# Altium footprint library Components - 18.07.26 - 22.48.PcbLib: 4 footprints
Each footprint in its own frame and in the unit in brackets; x right, y up, seen from the top. Pads: shape width x height; smd on the part's side, far side on the other; paste and mask are expansions set on the pad; w line width, h text height; cw(c..) or ccw(c..) is an arc to the next point about the centre after c.
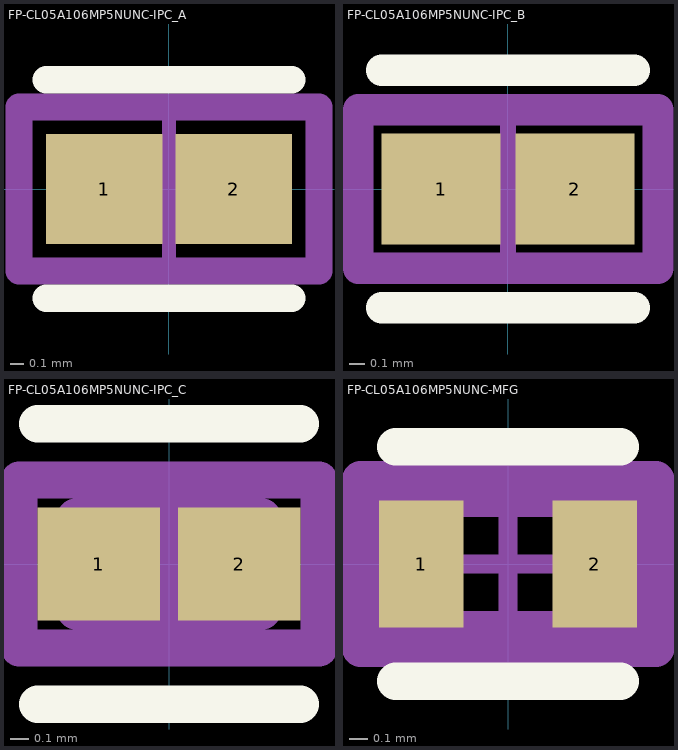
[diagram p0: the footprints below, top view; thin cyan lines are the x and y axes]

## FP-CL05A106MP5NUNC-IPC_A [mm]
pads (2):
  rect 0.856x0.806 smd paste+0 mask+0: 1(-0.475,0) 2(0.475,0)
Top Overlay:
  lines w0.2: -0.903,-0.803 0.903,-0.803 ; -0.903,0.803 0.903,0.803
Top Assembly:
  lines w0.2: -1.103,-0.603 1.103,-0.603 1.103,0.603 -1.103,0.603 -1.103,-0.603
  text ".Designator" at 0,0.188 h1
Top 3D Body:
  lines w0.2: -0.5,-0.25 0.5,-0.25 0.5,0.25 -0.5,0.25 -0.5,-0.25
Top Courtyard:
  lines w0.2: -1.103,-0.603 1.103,-0.603 1.103,0.603 -1.103,0.603 -1.103,-0.603
Top Component Center:
  lines w0.1: -0.5,0 0.5,0 ; 0,-0.5 0,0.5
3D body "Cap_Samsung_CL05A106MP5NUNC_eec.STEP": height 0.25, standoff 0, extent -1.103,-0.603 1.103,0.603

## FP-CL05A106MP5NUNC-IPC_B [mm]
pads (2):
  rect 0.756x0.706 smd paste+0 mask+0: 1(-0.425,0) 2(0.425,0)
Top Overlay:
  lines w0.2: -0.803,-0.753 0.803,-0.753 ; -0.803,0.753 0.803,0.753
Top Assembly:
  lines w0.2: -0.953,-0.503 0.953,-0.503 0.953,0.503 -0.953,0.503 -0.953,-0.503
  text ".Designator" at 0,0.188 h1
Top 3D Body:
  lines w0.2: -0.5,-0.25 0.5,-0.25 0.5,0.25 -0.5,0.25 -0.5,-0.25
Top Courtyard:
  lines w0.2: -0.953,-0.503 0.953,-0.503 0.953,0.503 -0.953,0.503 -0.953,-0.503
Top Component Center:
  lines w0.1: -0.5,0 0.5,0 ; 0,-0.5 0,0.5
3D body "Cap_Samsung_CL05A106MP5NUNC_eec.STEP": height 0.25, standoff 0, extent -0.953,-0.503 0.953,0.503

## FP-CL05A106MP5NUNC-IPC_C [mm]
pads (2):
  rect 0.656x0.606 smd paste+0 mask+0: 1(-0.375,0) 2(0.375,0)
Top Overlay:
  lines w0.2: -0.703,-0.75 0.703,-0.75 ; -0.703,0.75 0.703,0.75
Top Assembly:
  lines w0.2: -0.803,-0.45 0.803,-0.45 0.803,0.45 -0.803,0.45 -0.803,-0.45
  text ".Designator" at 0,0.188 h1
Top 3D Body:
  lines w0.2: -0.5,-0.25 0.5,-0.25 0.5,0.25 -0.5,0.25 -0.5,-0.25
Top Courtyard:
  lines w0.2: -0.803,-0.45 0.803,-0.45 0.803,0.45 -0.803,0.45 -0.803,-0.45
Top Component Center:
  lines w0.1: -0.5,0 0.5,0 ; 0,-0.5 0,0.5
3D body "Cap_Samsung_CL05A106MP5NUNC_eec.STEP": height 0.25, standoff 0, extent -0.803,-0.45 0.803,0.45

## FP-CL05A106MP5NUNC-MFG [mm]
pads (2):
  rect 0.45x0.675 smd paste+0 mask+0: 1(-0.463,0) 2(0.463,0)
Top Overlay:
  lines w0.2: -0.6,-0.625 0.6,-0.625 ; -0.6,0.625 0.6,0.625
Top Assembly:
  lines w0.2: -0.787,-0.45 0.787,-0.45 0.787,0.45 -0.787,0.45 -0.787,-0.45
  text ".Designator" at 0,0.188 h1
Top 3D Body:
  lines w0.2: -0.6,-0.35 0.6,-0.35 0.6,0.35 -0.6,0.35 -0.6,-0.35
Top Courtyard:
  lines w0.2: -0.787,-0.45 0.787,-0.45 0.787,0.45 -0.787,0.45 -0.787,-0.45
Top Component Center:
  lines w0.1: -0.5,0 0.5,0 ; 0,-0.5 0,0.5
3D body "Cap_Samsung_CL05A106MP5NUNC_eec.STEP": height 0.25, standoff 0, extent -0.787,-0.45 0.787,0.45